# Altium schematic symbol library SMA-THRU.Schlib: 1 symbol
Pins are listed as number, name and electrical type; pins without a type are passive.

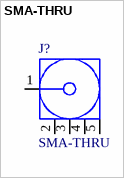
[diagram p0: symbol SMA-THRU]

## SMA-THRU
designator J?
pins: 1 Signal "Signal Pin", 2 GND (power), 3 GND (power), 4 GND (power), 5 GND (power)